# Altium schematic symbol library CCG15.Schlib: 1 symbol
Pins are listed as number, name and electrical type; pins without a type are passive.

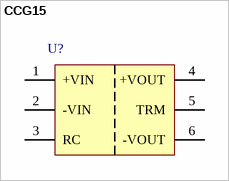
[diagram p0: symbol CCG15]

## CCG15
designator U?  (value not drawn)
Isolated DC/DC converter module, TDK-Lambda CCG15 series
pins: 1 +VIN, 2 -VIN, 3 RC, 4 +VOUT (power), 5 TRM, 6 -VOUT (power)